# Altium footprint library BD139.PcbLib: 1 footprints
Each footprint in its own frame and in the unit in brackets; x right, y up, seen from the top. Pads: shape width x height; smd on the part's side, far side on the other; paste and mask are expansions set on the pad; w line width, h text height; cw(c..) or ccw(c..) is an arc to the next point about the centre after c.
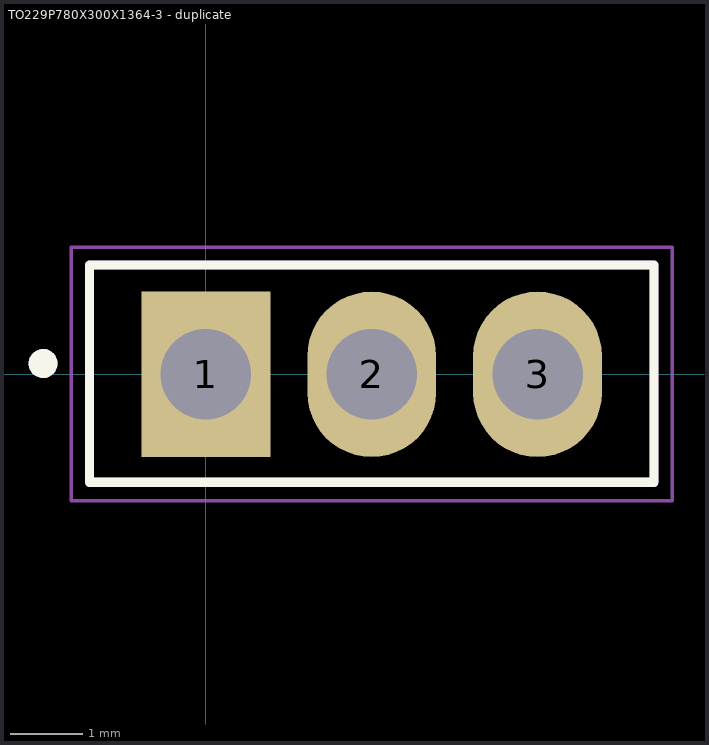
[diagram p0: the footprint, top view; thin cyan lines are the x and y axes]

## TO229P780X300X1364-3 - duplicate [mil]
pads (3):
  rect 70x90 hole 49.21: 1(0,0)
  oval 70x90 hole 49.21: 2(90.16,0) 3(180.31,0)
Top Overlay:
  circle w7.87: c-88.58,5.91 r3.94
  lines w5: -63.39,-58.66 -63.39,59.45 243.7,59.45 243.7,-58.66 -63.39,-58.66
Mechanical 13:
  circle w7.87: c-88.58,5.91 r3.94
  lines w5: -63.39,-58.66 -63.39,59.45 243.7,59.45 243.7,-58.66 -63.39,-58.66
Mechanical 15:
  lines w1.97: -73.23,-68.7 -73.23,69.09 253.54,69.09 253.54,-68.7 -73.23,-68.7